# Altium footprint library Components.PcbLib: 155 footprints (part 6 of 10)
Each footprint in its own frame and in the unit in brackets; x right, y up, seen from the top. Pads: shape width x height; smd on the part's side, far side on the other; paste and mask are expansions set on the pad; w line width, h text height; cw(c..) or ccw(c..) is an arc to the next point about the centre after c.
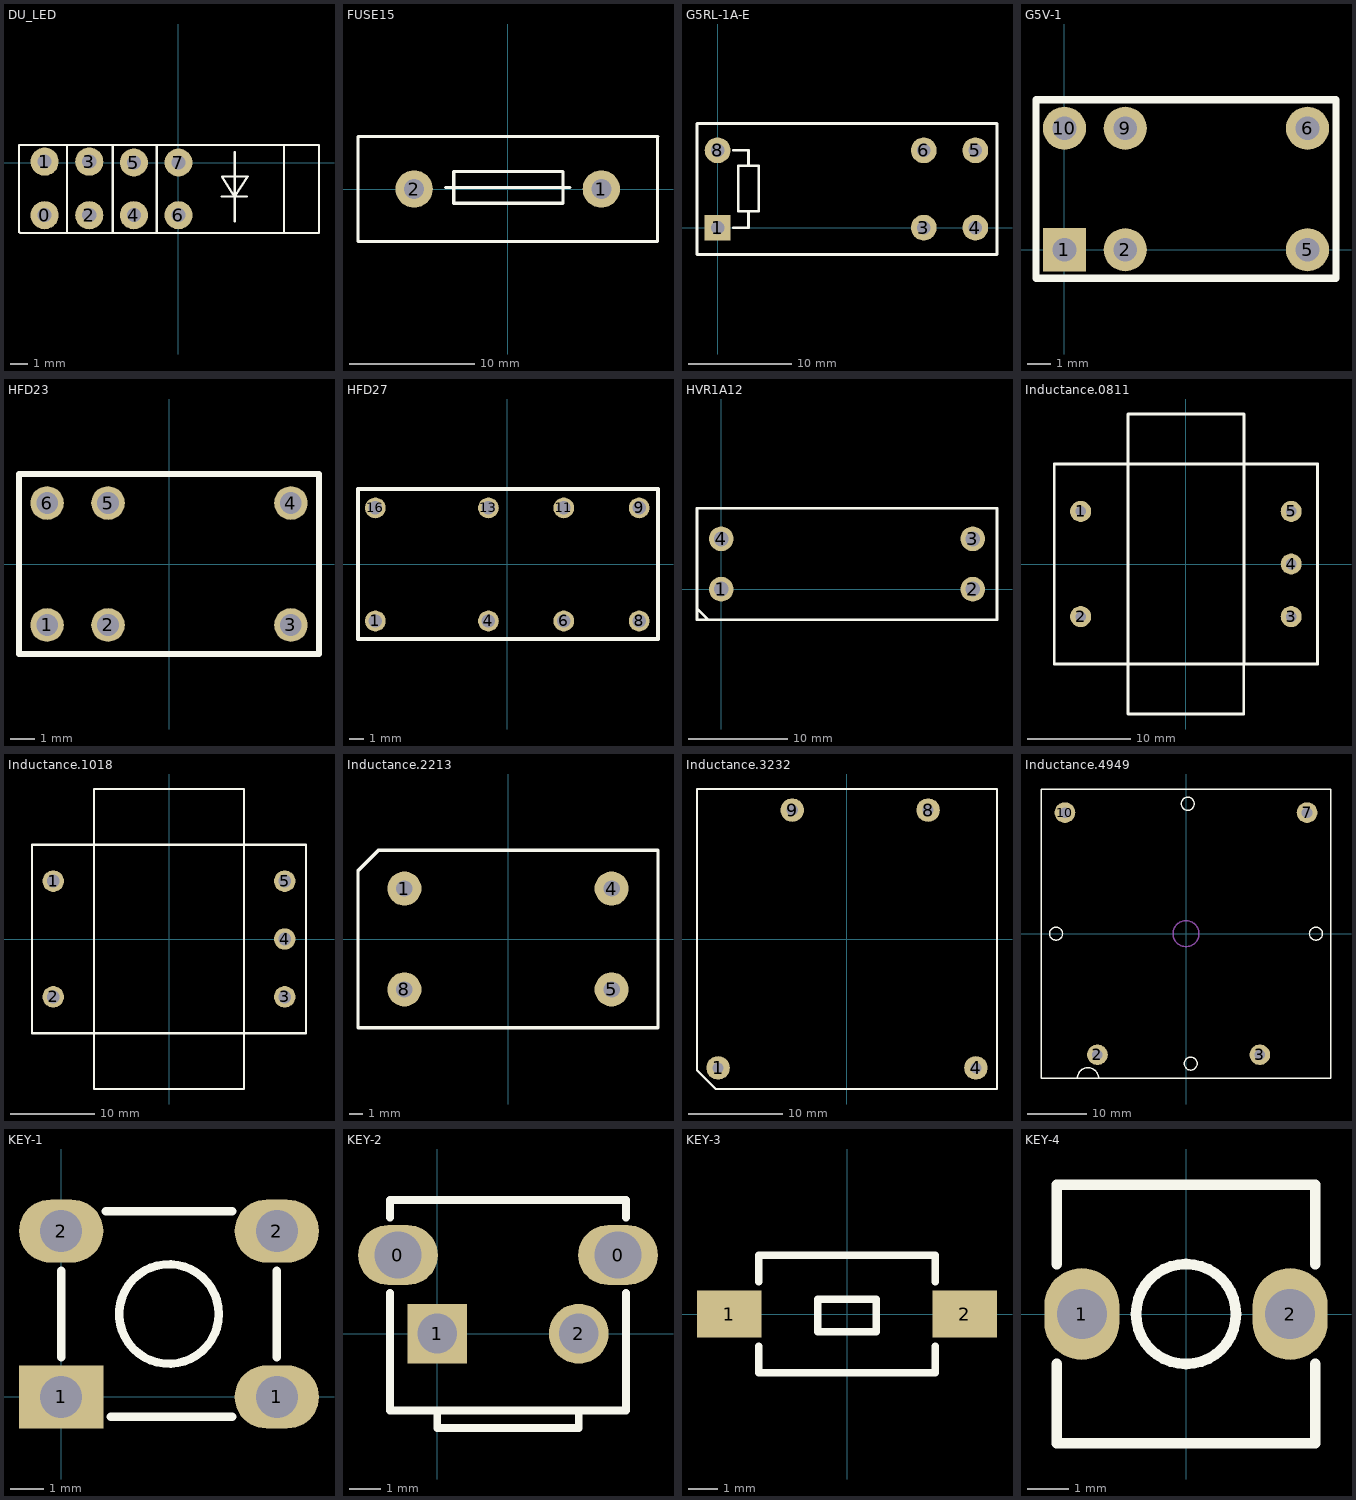
[diagram p5: the footprints below, top view; thin cyan lines are the x and y axes]

## DU_LED [mm]
pads (8):
  round 1.6 hole 0.8: 0(-7.62,-3) 1(-7.62,0.048) 2(-5.08,-3) 3(-5.08,0.048) 4(-2.54,-3) 5(-2.54,0) 6(0,-3) 7(0,0)
Top Overlay:
  lines w0.127: -6.35,-4 -6.35,1 ; -3.74,-4 -3.74,1 ; -1.24,-4 -1.24,1 ; 2.455,-1.943 3.903,-1.943 ; 3.2,-3.34 3.2,0.597 ; 6,-4 6,1 ; -3.74,1 6,1 ; -3.74,1 -7.048,1 -9.08,1 -9.08,-3.952 -9.016,-4.016 -8.636,-4.016 -3.556,-4.016 6,-4.016 8,-4.016 8,1 6,1 ; 2.489,-0.8 3.2,-1.943 3.937,-0.8 2.489,-0.8

## FUSE15 [mm] "5*20  15mm"
pads (2):
  round 3 hole 1.6: 1(7.5,0) 2(-7.5,0)
Top Overlay:
  lines w0.254: -5,0.127 5,0.127 ; -4.333,1.27 -4.333,1.143 ; -4.333,1.143 -4.333,1.397 4.43,1.397 4.43,-1.143 -4.333,-1.143 -4.333,1.143 ; -12,-4.2 -12,4.2 12.041,4.2 12,4.159 12,-4.2 -12,-4.2

## G5RL-1A-E [mm] "G5RL-1A-E"
pads (6):
  rect 2.5x2.5 hole 1.3: 1(0,0)
  round 2.5 hole 1.3: 3(20,0) 4(25,0) 5(25,7.5) 6(20,7.5) 8(0,7.5)
Top Overlay:
  lines w0.254: 1.5,0 3,0 3,1.6 ; 1.5,7.5 3,7.5 3,6 ; 2,1.6 4,1.6 4,6 2,6 2,1.6
  lines w0.3: 27,-2.6 -2,-2.6 -2,10.1 27,10.1 ; 27.1,-2.6 27.1,10.1

## G5V-1 [mm]
pads (6):
  rect 1.8x1.8 hole 1: 1(0,0)
  round 1.8 hole 1: 2(2.54,0) 5(10.16,0) 6(10.16,5.08) 9(2.54,5.08) 10(0,5.08)
Top Overlay:
  lines w0.3: -1.19,-1.19 -1.19,6.27 11.35,6.27 11.35,-1.19 -1.19,-1.19

## HFD23 [mm] "HFD23"
pads (6):
  round 1.4 hole 0.9: 1(-5.08,-2.54) 2(-2.54,-2.54) 3(5.08,-2.54) 4(5.08,2.54) 5(-2.54,2.54) 6(-5.08,2.54)
Top Overlay:
  lines w0.254: -6.25,-3.75 6.25,-3.75 6.25,3.75 -6.25,3.75 -6.25,-3.75

## HFD27 [mm] "HFD27"
pads (8):
  round 1.4 hole 0.9: 1(-8.89,-3.81) 4(-1.27,-3.81) 6(3.81,-3.81) 8(8.89,-3.81) 9(8.89,3.81) 11(3.81,3.81) 13(-1.27,3.81) 16(-8.89,3.81)
Top Overlay:
  lines w0.254: -10.06,-5.02 10.16,-5.02 10.16,5.08 -10.06,5.08 -10.06,-5.02

## HVR1A12 [mm] "HVR1A12"
pads (4):
  round 2.5 hole 1.5: 1(0,0) 2(25.4,0) 3(25.4,5.08) 4(0,5.08)
Top Overlay:
  lines w0.254: -2.45,-2 -2.41,-2 -1.3,-3.11 ; -2.45,-1.66 -2.45,-1.5 ; 27.81,8.19 -2.45,8.19 -2.45,-3.11 27.85,-3.11 27.85,8.19

## Inductance.0811 [mil] "20mH/100Hz"
height 1040
pads (5):
  round 80 hole 40: 1(-400,200) 2(-400,-200) 3(400,-200) 4(400,0) 5(400,200)
Top Overlay:
  lines w10: 220,-380 220,-570 -220,-570 -220,-380 ; 220,570 -220,570 -220,380 ; 220.47,570 220.47,380 ; 500,-380 500,380 ; 500.47,-380 220.47,-380 ; 500.47,380 220.47,380 ; -220,-380 220.47,-380 ; -220,-380 -220,380 ; -220,-380 -500,-380 -500,380 -220,380 ; -220,380 220.47,380 ; 220.47,-380 220.47,380

## Inductance.1018 [mil] "20mH/100Hz"
height 1200
pads (5):
  round 100 hole 60: 1(-540,270) 2(-540,-270) 3(540,-270) 4(540,0) 5(540,270)
Top Overlay:
  lines w10: -640,-440 -640,440 640,440 640,-440 -640,-440 ; -350,-700 350,-700 350,700 -350,700 -350,-700

## Inductance.2213 [mm]
pads (4):
  round 2.5 hole 1.2: 1(-7.6,3.7) 4(7.6,3.7) 5(7.6,-3.7) 8(-7.6,-3.7)
Top Overlay:
  lines w0.254: -11,-6.5 -11,5 -9.5,6.5 11,6.5 11,-6.5 -11,-6.5

## Inductance.3232 [mm]
pads (4):
  round 2.5 hole 1.2: 1(-13.75,-13.75) 4(13.75,-13.75) 8(8.65,13.75) 9(-5.85,13.75)
Top Overlay:
  lines w0.254: -16,-14 -16,16 16,16 16,-16 -14,-16 -16,-14

## Inductance.4949 [mm]
pads (4):
  round 3.5 hole 1.8: 2(-15,-20.5) 3(12.5,-20.5) 7(20.5,20.5) 10(-20.5,20.5)
Top Overlay:
  circle w0.254: c0.8,-22 r1.1
  circle w0.254: c-22,0 r1.1
  circle w0.254: c0.3,22 r1.1
  circle w0.254: c22,0 r1.1
  lines w0.254: -18.4,-24.5 cw(c-16.6,-24.5) -14.8,-24.5 ; -24.5,-24.5 -24.5,24.5 24.5,24.5 24.5,-24.5 -24.5,-24.5
Mechanical 1:
  circle w0.254: c0,0 r2.2

## KEY-1 [mm] "6*6*5mm"
pads (4):
  rect 2.54x1.9 hole 1.27: 1(0,0)
  oval 2.54x1.9 hole 1.27: 1(6.5,0) 2(0,5) 2(6.5,5)
Top Overlay:
  circle w0.254: c3.25,2.5 r1.5
  lines w0.254: 0,1.2 0,3.8 ; 1.35,5.6 5.15,5.6 ; 1.5,-0.6 5.15,-0.6 ; 6.5,1.2 6.5,3.8

## KEY-2 [mm] "6*6*5"
pads (4):
  oval 2.54x1.9 hole 1.5: 0(-1.25,2.5) 0(5.75,2.5)
  rect 1.9x1.9 hole 1.27: 1(0,0)
  round 1.9 hole 1.27: 2(4.5,0)
Top Overlay:
  lines w0.254: -1.5,1.3 -1.5,-2.45 6,-2.45 6,1.3 ; -1.5,3.7 -1.5,4.25 6,4.25 6,3.7 ; 0,-2.45 0,-3 4.5,-3 4.5,-2.45

## KEY-3 [mm] "3*6*2.5mm"
pads (2):
  rect 2.2x1.6 smd: 1(-4,0) 2(4,0)
Top Overlay:
  lines w0.254: -3,-1.1 -3,-2 3,-2 3,-1.1 ; -3,1.1 -3,2 3,2 3,1.1 ; -1,-0.6 -1,0.5 1,0.5 1,-0.6 -1,-0.6

## KEY-4 [mm] "6*6*4.5mm"
pads (2):
  oval 1.8x2.2 hole 1.2: 1(-2.5,0) 2(2.5,0)
Top Overlay:
  circle w0.254: c0,0 r1.2
  lines w0.254: -3.1,-1.2 -3.1,-3.1 3.1,-3.1 3.1,-1.2 ; -3.1,1.2 -3.1,3.1 3.1,3.1 3.1,1.2